# Altium schematic symbol library STM32.SchLib: 4 symbols
Pins are listed as number, name and electrical type; pins without a type are passive.

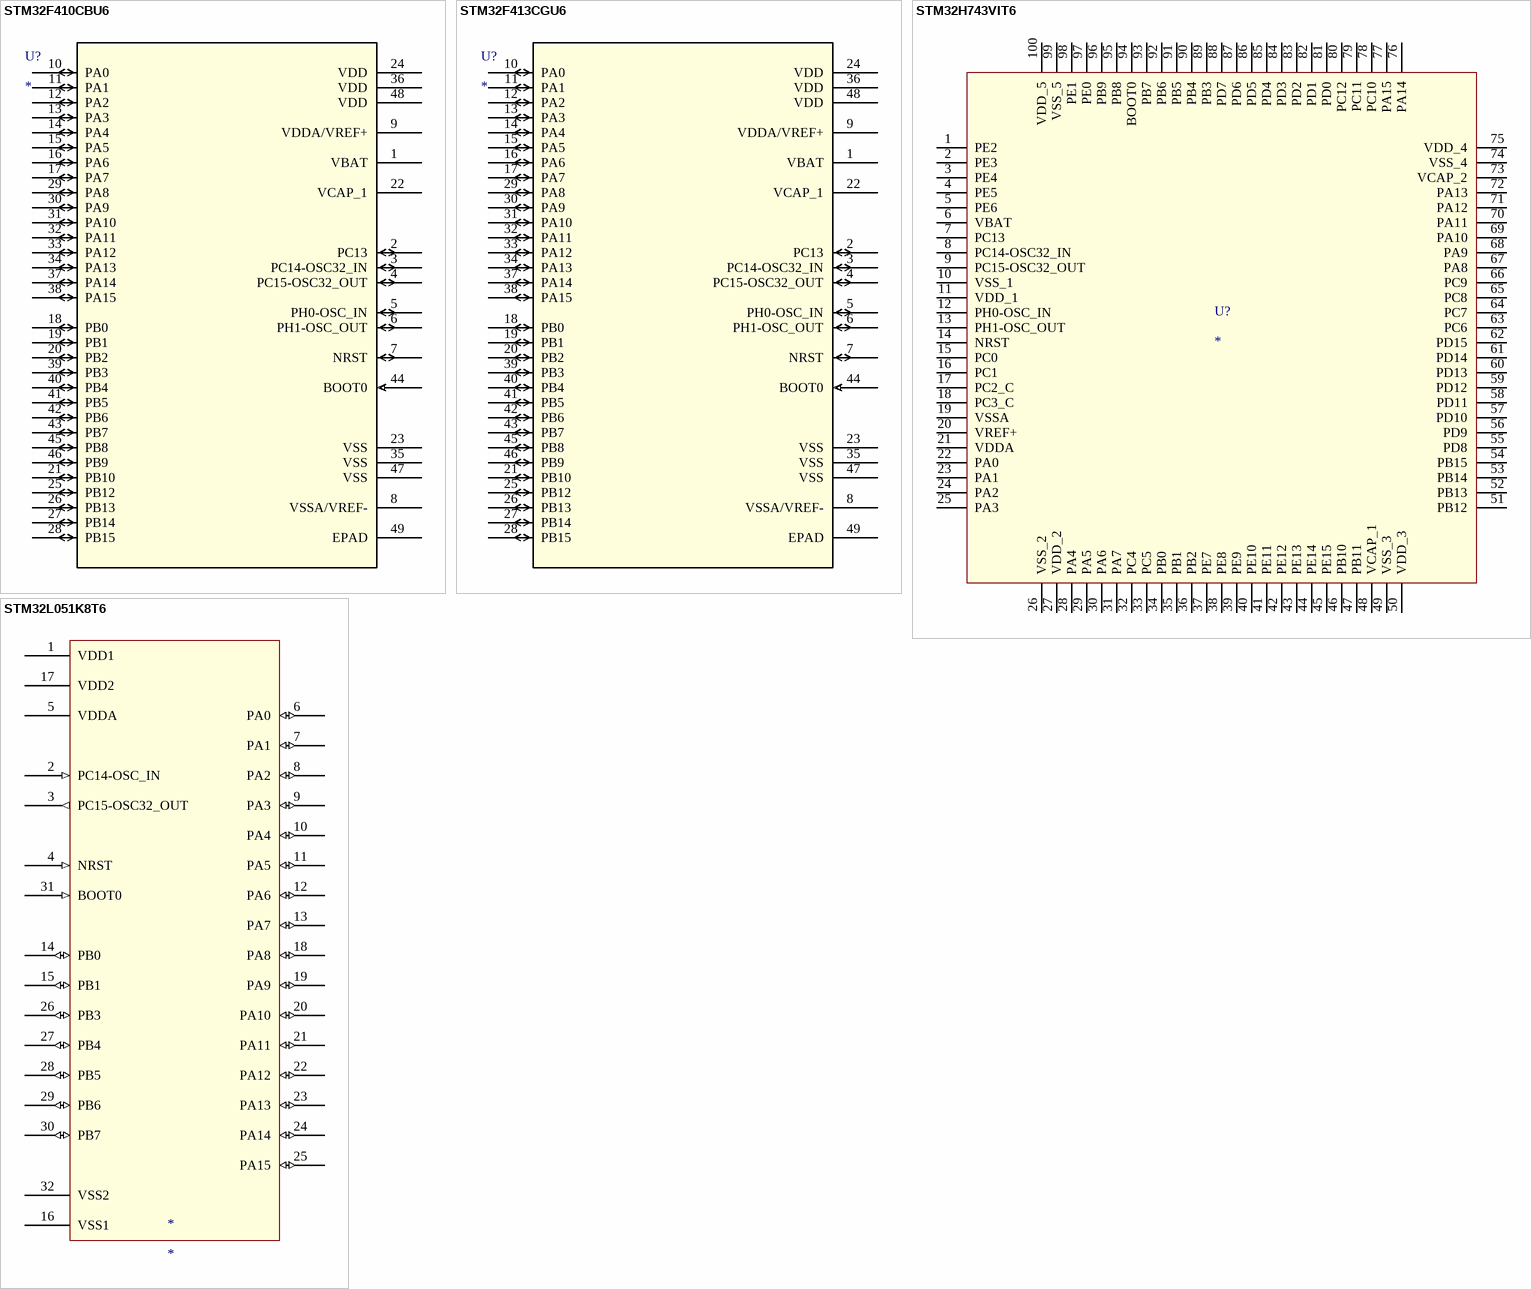
[diagram p0: symbols STM32F410CBU6 to STM32L051K8T6]

## STM32F410CBU6
designator U?
IC MCU 32BIT 128KB FLASH 48QFPN; Manufacturer 1: STMicroelectronics; Manufacturer Part Number 1: STM32F410CBU6; Frequency: 100MHz; Interface: I2C; Number of I/Os: 36; Oscillator Type: Internal; RAM Size: 32KB; Min Supply Voltage: 1.7V; Max Supply Voltage: 3.6V; Peripherals: Brown-out Detect/Reset; Core Architecture: ARM; Supplier 1: Digi-Key; Stock 1: 3513; Pricing 1: 1=3.73000, 10=3.34600, 260=2.60112, 520=2.33396, 1040=1.96840 (USD); RoHS: Yes; Case/Package: UFQFPN; Number of Pins: 48; Min Operating Temperature: -40°C; Max Operating Temperature: 85°C; Packaging: Tray; Memory Type: FLASH; Memory Size: 128KB; REACH SVHC: No SVHC; ComponentLink1URL: http://www.mouser.com/ds/2/389/stm32f410cb-956320.pdf?src-supplier=Mouser; ComponentLink1Description: http://www.mouser.com/ds/2/389/stm32f410cb-956320.pdf?src-supplier=Mouser; ComponentLink2URL: http://www.farnell.com/datasheets/2006536.pdf?src-supplier=Farnell; ComponentLink2Description: http://www.farnell.com/datasheets/2006536.pdf?src-supplier=Farnell; ComponentLink3URL: http://www.st.com/content/ccc/resource/technical/document/datasheet/6e/f3/b0/1b/05/eb/49/fe/DM00214043.pdf/files/DM00214043.pdf/jcr:content/translations/en.DM00214043.pdf?src-supplier=Digi-Key; ComponentLink3Description: http://www.st.com/content/ccc/resource/technical/document/datasheet/6e/f3/b0/1b/05/eb/49/fe/DM00214043.pdf/files/DM00214043.pdf/jcr:content/translations/en.DM00214043.pdf?src-supplier=Digi-Key; ComponentLink4URL: http://www.farnell.com/datasheets/2006536.pdf?src-supplier=Element14; ComponentLink4Description: http://www.farnell.com/datasheets/2006536.pdf?src-supplier=Element14
footprint UFQFPN-48
pins: 1 VBAT (power), 2 PC13, 3 PC14-OSC32_IN, 4 PC15-OSC32_OUT, 5 PH0-OSC_IN, 6 PH1-OSC_OUT, 7 NRST, 8 VSSA/VREF- (power), 9 VDDA/VREF+ (power), 10 PA0, 11 PA1, 12 PA2, 13 PA3, 14 PA4, 15 PA5, 16 PA6, 17 PA7, 18 PB0, 19 PB1, 20 PB2, 21 PB10, 22 VCAP_1 (power), 23 VSS (power), 24 VDD (power), 25 PB12, 26 PB13, 27 PB14, 28 PB15, 29 PA8, 30 PA9, 31 PA10, 32 PA11, 33 PA12, 34 PA13, 35 VSS (power), 36 VDD (power), 37 PA14, 38 PA15, 39 PB3, 40 PB4, 41 PB5, 42 PB6, 43 PB7, 44 BOOT0 (in), 45 PB8, 46 PB9, 47 VSS (power), 48 VDD (power), 49 EPAD

## STM32F413CGU6
designator U?
IC MCU 32BIT 1MB FLASH 48UFQFN; Manufacturer 1: STMicroelectronics; Manufacturer Part Number 1: STM32F413CGU6; Supplier 1: Digi-Key; Stock 1: 4904; Pricing 1: 1=9.54000, 10=8.62200, 260=6.81700, 520=6.21550, 1040=5.41350 (USD); RoHS: No; ComponentLink1URL: http://www.farnell.com/datasheets/2581760.pdf?src-supplier=Farnell; ComponentLink1Description: http://www.farnell.com/datasheets/2581760.pdf?src-supplier=Farnell; ComponentLink2URL: http://www.st.com/content/ccc/resource/technical/document/datasheet/group3/f6/1d/4a/d9/f9/96/43/2a/DM00282249/files/DM00282249.pdf/jcr:content/translations/en.DM00282249.pdf?src-supplier=Digi-Key; ComponentLink2Description: http://www.st.com/content/ccc/resource/technical/document/datasheet/group3/f6/1d/4a/d9/f9/96/43/2a/DM00282249/files/DM00282249.pdf/jcr:content/translations/en.DM00282249.pdf?src-supplier=Digi-Key
footprint UFQFPN-48
pins: 1 VBAT (power), 2 PC13, 3 PC14-OSC32_IN, 4 PC15-OSC32_OUT, 5 PH0-OSC_IN, 6 PH1-OSC_OUT, 7 NRST, 8 VSSA/VREF- (power), 9 VDDA/VREF+ (power), 10 PA0, 11 PA1, 12 PA2, 13 PA3, 14 PA4, 15 PA5, 16 PA6, 17 PA7, 18 PB0, 19 PB1, 20 PB2, 21 PB10, 22 VCAP_1 (power), 23 VSS (power), 24 VDD (power), 25 PB12, 26 PB13, 27 PB14, 28 PB15, 29 PA8, 30 PA9, 31 PA10, 32 PA11, 33 PA12, 34 PA13, 35 VSS (power), 36 VDD (power), 37 PA14, 38 PA15, 39 PB3, 40 PB4, 41 PB5, 42 PB6, 43 PB7, 44 BOOT0 (in), 45 PB8, 46 PB9, 47 VSS (power), 48 VDD (power), 49 EPAD

## STM32H743VIT6
designator U?
IC MCU 32BIT 2MB FLASH 100LQFP; Manufacturer 1: STMicroelectronics; Manufacturer Part Number 1: STM32H743VIT6; Supplier 1: Future Electronics; Stock 1: 209; Pricing 1: 1=10.01000 (USD); RoHS: No; ComponentLink1URL: http://www.farnell.com/datasheets/2551152.pdf?src-supplier=Farnell; ComponentLink1Description: http://www.farnell.com/datasheets/2551152.pdf?src-supplier=Farnell; ComponentLink2URL: http://www.st.com/content/ccc/resource/technical/document/reference_manual/group0/c9/a3/76/fa/55/46/45/fa/DM00314099/files/DM00314099.pdf/jcr:content/translations/en.DM00314099.pdf?src-supplier=Digi-Key; ComponentLink2Description: http://www.st.com/content/ccc/resource/technical/document/reference_manual/group0/c9/a3/76/fa/55/46/45/fa/DM00314099/files/DM00314099.pdf/jcr:content/translations/en.DM00314099.pdf?src-supplier=Digi-Key
footprint LQFP-100
pins: 1 PE2, 2 PE3, 3 PE4, 4 PE5, 5 PE6, 6 VBAT, 7 PC13, 8 PC14-OSC32_IN, 9 PC15-OSC32_OUT, 10 VSS_1, 11 VDD_1, 12 PH0-OSC_IN, 13 PH1-OSC_OUT, 14 NRST, 15 PC0, 16 PC1, 17 PC2_C, 18 PC3_C, 19 VSSA, 20 VREF+, 21 VDDA, 22 PA0, 23 PA1, 24 PA2, 25 PA3, 26 VSS_2, 27 VDD_2, 28 PA4, 29 PA5, 30 PA6, 31 PA7, 32 PC4, 33 PC5, 34 PB0, 35 PB1, 36 PB2, 37 PE7, 38 PE8, 39 PE9, 40 PE10, 41 PE11, 42 PE12, 43 PE13, 44 PE14, 45 PE15, 46 PB10, 47 PB11, 48 VCAP_1, 49 VSS_3, 50 VDD_3, 51 PB12, 52 PB13, 53 PB14, 54 PB15, 55 PD8, 56 PD9, 57 PD10, 58 PD11, 59 PD12, 60 PD13, 61 PD14, 62 PD15, 63 PC6, 64 PC7, 65 PC8, 66 PC9, 67 PA8, 68 PA9, 69 PA10, 70 PA11, 71 PA12, 72 PA13, 73 VCAP_2, 74 VSS_4, 75 VDD_4, 76 PA14, 77 PA15, 78 PC10, 79 PC11, 80 PC12, 81 PD0, 82 PD1, 83 PD2, 84 PD3, 85 PD4, 86 PD5, 87 PD6, 88 PD7, 89 PB3, 90 PB4, 91 PB5, 92 PB6, 93 PB7, 94 BOOT0, 95 PB8, 96 PB9, 97 PE0, 98 PE1, 99 VSS_5, 100 VDD_5

## STM32L051K8T6
designator *
IC MCU 32BIT 64KB FLASH 32LQFP; Manufacturer 1: STMicroelectronics; Manufacturer Part Number 1: STM32L051K8T6; Max Power Dissipation: 526mW; Interface: I2C; Number of I/Os: 27; Number of Timers/Counters: 5; RAM Size: 8KB; Frequency: 32MHz; Oscillator Type: Internal; Data Bus Width: 32b; Number of Programmable I/O: 25; Min Supply Voltage: 1.8V; Max Supply Voltage: 3.6V; Watchdog Timer: Yes; Number of ADC Channels: 10; Peripherals: Brown-out Detect/Reset; Core Architecture: ARM; Supplier 1: Digi-Key; Stock 1: 3636; Pricing 1: 1=3.06000, 10=2.75200, 250=2.13880, 500=1.91912, 1000=1.61854 (USD); RoHS: Yes; Case/Package: LQFP; Number of Pins: 32; Weight: 0.027302oz; Min Operating Temperature: -40°C; Max Operating Temperature: 85°C; Packaging: Tray; Max Frequency: 32MHz; Memory Type: FLASH; Memory Size: 64KB; Package Quantity: 1500; REACH SVHC: No SVHC; Lead Free: Lead Free; ComponentLink1URL: http://www.mouser.com/ds/2/389/stm32l051c6-956268.pdf?src-supplier=Mouser; ComponentLink1Description: http://www.mouser.com/ds/2/389/stm32l051c6-956268.pdf?src-supplier=Mouser; ComponentLink2URL: http://www.farnell.com/datasheets/1964276.pdf?src-supplier=Farnell; ComponentLink2Description: http://www.farnell.com/datasheets/1964276.pdf?src-supplier=Farnell; ComponentLink3URL: http://www.st.com/web/en/resource/technical/document/datasheet/DM00108219.pdf?src-supplier=Avnet; ComponentLink3Description: http://www.st.com/web/en/resource/technical/document/datasheet/DM00108219.pdf?src-supplier=Avnet; ComponentLink4URL: http://www.st.com/content/ccc/resource/technical/document/datasheet/9a/75/bd/16/0f/fd/49/19/DM00108219.pdf/files/DM00108219.pdf/jcr:content/translations/en.DM00108219.pdf?src-supplier=Digi-Key; ComponentLink4Description: http://www.st.com/content/ccc/resource/technical/document/datasheet/9a/75/bd/16/0f/fd/49/19/DM00108219.pdf/files/DM00108219.pdf/jcr:content/translations/en.DM00108219.pdf?src-supplier=Digi-Key
footprint LQFP-32
pins: 1 VDD1 (power), 2 PC14-OSC_IN (in), 3 PC15-OSC32_OUT (out), 4 NRST (in), 5 VDDA (power), 6 PA0 (io), 7 PA1 (io), 8 PA2 (io), 9 PA3 (io), 10 PA4 (io), 11 PA5 (io), 12 PA6 (io), 13 PA7 (io), 14 PB0 (io), 15 PB1 (io), 16 VSS1 (power), 17 VDD2 (power), 18 PA8 (io), 19 PA9 (io), 20 PA10 (io), 21 PA11 (io), 22 PA12 (io), 23 PA13 (io), 24 PA14 (io), 25 PA15 (io), 26 PB3 (io), 27 PB4 (io), 28 PB5 (io), 29 PB6 (io), 30 PB7 (io), 31 BOOT0 (in), 32 VSS2 (power)